# Altium footprint library Keebs.PcbLib: 219 footprints (part 10 of 14)
Each footprint in its own frame and in the unit in brackets; x right, y up, seen from the top. Pads: shape width x height; smd on the part's side, far side on the other; paste and mask are expansions set on the pad; w line width, h text height; cw(c..) or ccw(c..) is an arc to the next point about the centre after c.
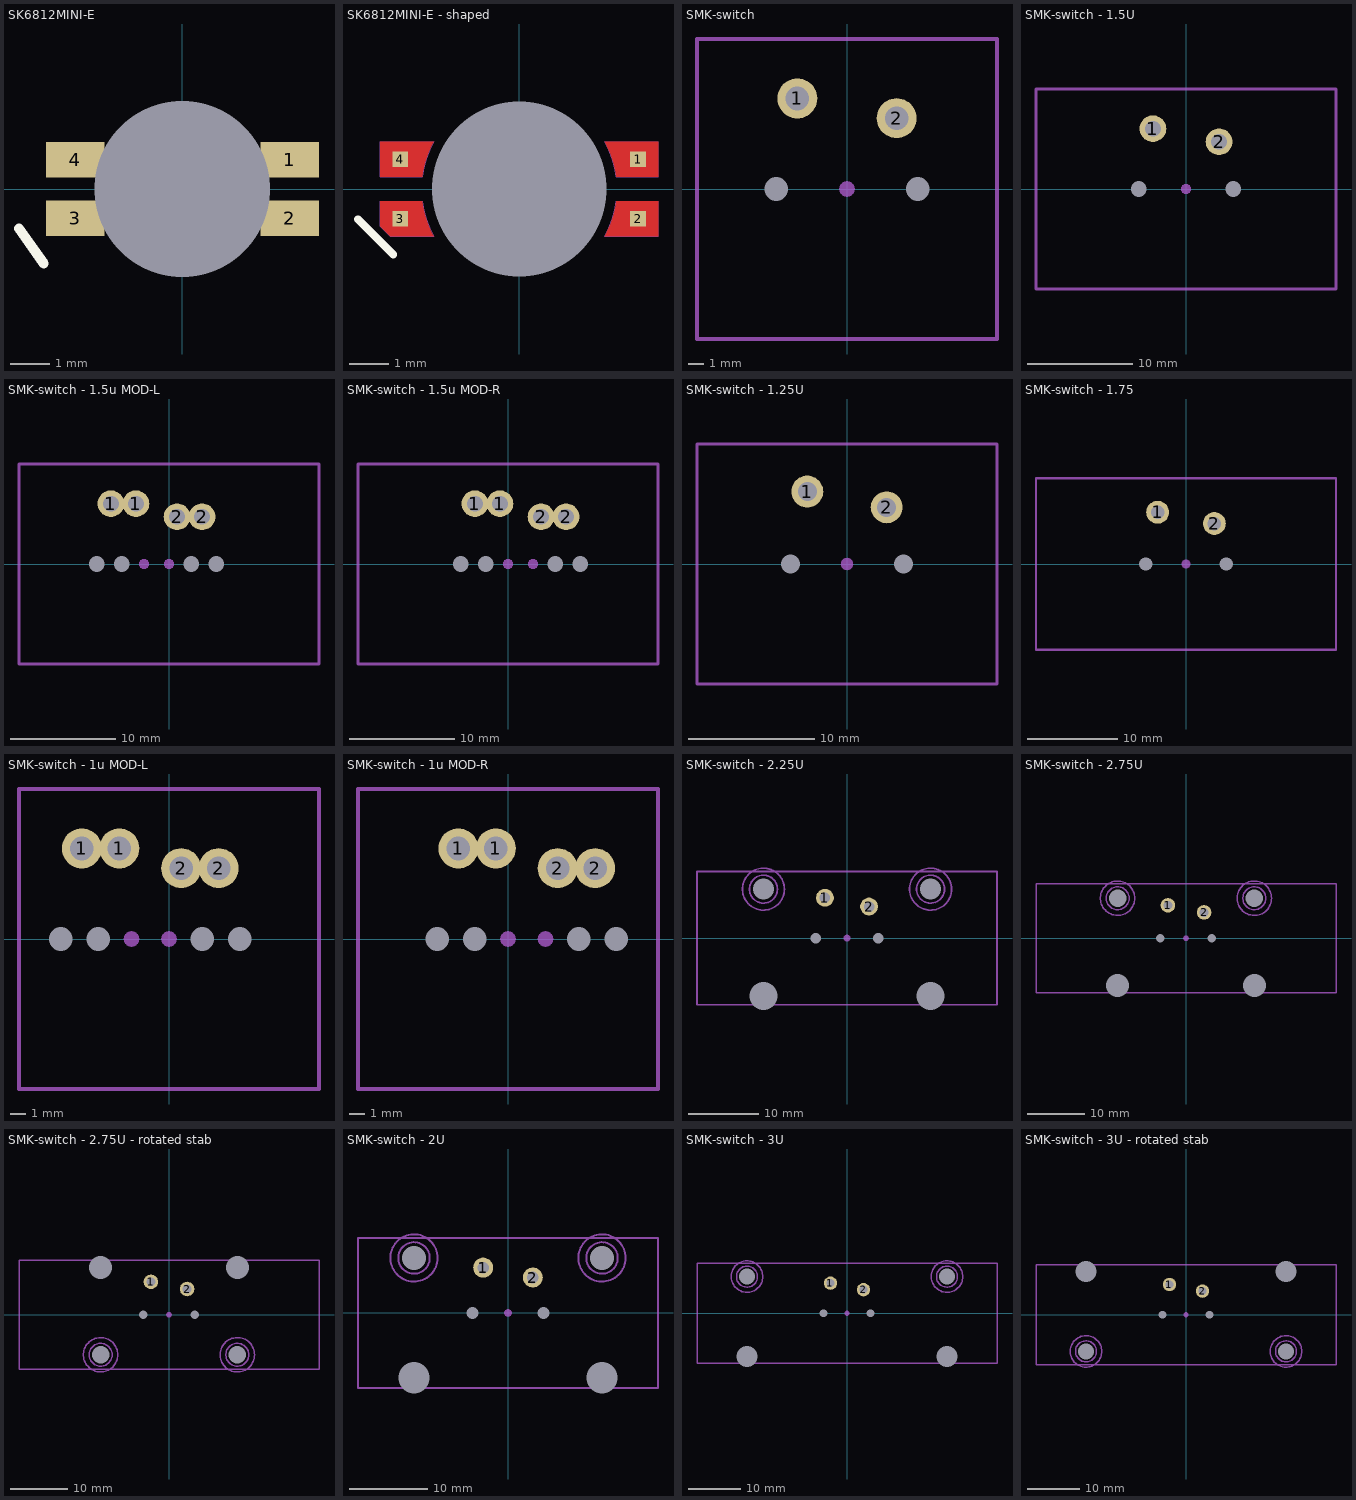
[diagram p9: the footprints below, top view; thin cyan lines are the x and y axes]

## SK6812MINI-E [mm]
pads (5):
  rect 1.5x0.9 smd: 1(2.75,0.75) 2(2.75,-0.75) 3(-2.75,-0.75) 4(-2.75,0.75)
  round 1 hole 4.5 unplated: ""(0,0)
Top Overlay:
  lines w0.254: -4.191,-1.016 -3.556,-1.905
Mechanical 13:
  lines w0.2: -1.6,-1.4 1.6,-1.4 1.6,1.4 -1.6,1.4 -1.6,-1.4
  text ".Designator" at -1.27,-0.127 h0.35
3D body "LED_SK6812MINI-E.step": height 0.94, standoff -0.84, extent -2.94,-1.403 2.94,1.397

## SK6812MINI-E - shaped [mm]
pads (5):
  rect 0.4x0.4 smd: 1(3,0.75) 2(3,-0.75) 3(-3,-0.75) 4(-3,0.75)
  round 1 hole 4.4 unplated: ""(0,0)
Top Layer:
  region: -3.5,0.304 -3.5,1.195 -2.157,1.195 -2.211,1.091 -2.305,0.875 -2.378,0.651 -2.43,0.421 -2.447,0.304 -2.449,0.304
  region: 2.447,0.304 2.43,0.421 2.378,0.651 2.305,0.875 2.211,1.091 2.157,1.195 3.5,1.195 3.5,0.304
  region: 2.157,-1.195 3.5,-1.195 3.5,-0.304 2.449,-0.304 2.447,-0.304 2.43,-0.421 2.378,-0.651 2.305,-0.875 2.211,-1.091
  region: -3.25,-1.195 -3.5,-0.945 -3.5,-0.304 -2.449,-0.304 -2.447,-0.304 -2.43,-0.421 -2.378,-0.651 -2.305,-0.875 -2.211,-1.091 -2.157,-1.195
Top Overlay:
  lines w0.2: -4.064,-0.762 -3.175,-1.651
Mechanical 7:
  lines w0.01: -2.449,-0.304 -3.455,-0.304 -3.5,-0.304 -3.5,-0.945 -3.25,-1.195 -2.211,-1.195 -2.157,-1.195 cw(c0,0) -2.447,-0.304 ; -2.449,0.304 -3.455,0.304 -3.5,0.304 -3.5,0.349 -3.5,1.154 -3.5,1.195 -3.476,1.195 -2.211,1.195 -2.157,1.195 ccw(c0,0) -2.447,0.304 ; 2.447,-0.304 cw(c0,0) 2.157,-1.195 2.211,-1.195 3.476,-1.195 3.5,-1.195 3.5,-1.154 3.5,-0.349 3.5,-0.304 3.455,-0.304 2.449,-0.304 ; 2.447,0.304 ccw(c0,0) 2.157,1.195 2.211,1.195 3.476,1.195 3.5,1.195 3.5,1.154 3.5,0.349 3.5,0.304 3.455,0.304 2.449,0.304
Mechanical 13:
  lines w0.1: -1.6,-1.4 -1.6,1.4 1.6,1.4 1.6,-1.4 -1.6,-1.4
  text ".Designator" at -1.27,-0.127 h0.35
3D body "LED_SK6812MINI-E.step": height 0.94, standoff -0.84, extent -2.94,-1.403 2.94,1.397

## SMK-switch [mm]
pads (5):
  round 2.54 hole 1.5 mask-0.5: 1(-3.15,5.75) 2(3.15,4.5)
  round 1 hole 1.5 unplated: ""(-4.5,0) ""(4.5,0)
  round 1 on Mech13: ""(0,0)
Mechanical 13:
  lines w0.254: -9.525,-9.525 -9.525,9.525 9.525,9.525 9.525,-9.525 -9.525,-9.525
  text ".Designator" at -3.575,-3.7 h0.7

## SMK-switch - 1.5U [mm]
pads (5):
  round 2.54 hole 1.5 mask-0.5: 1(-3.15,5.75) 2(3.15,4.5)
  round 1 hole 1.5 unplated: ""(-4.5,0) ""(4.5,0)
  round 1 on Mech13: ""(0,0)
Mechanical 13:
  lines w0.254: -14.287,-9.525 14.287,-9.525 14.287,9.525 -14.287,9.525 -14.287,-9.525
  text ".Designator" at -3.825,-3.375 h0.7

## SMK-switch - 1.5u MOD-L [mm]
pads (10):
  round 2.54 hole 1.5 mask-0.5: 1(-5.531,5.75) 1(-3.15,5.75) 2(0.769,4.5) 2(3.15,4.5)
  round 1 hole 1.5 unplated: ""(-6.881,0) ""(-4.5,0) ""(2.119,0) ""(4.5,0)
  round 1 on Mech13: ""(-2.381,0) ""(0,0)
Mechanical 13:
  lines w0.254: -14.287,-9.525 -14.287,9.525 14.287,9.525 14.287,-9.525 -14.287,-9.525
  text ".Designator" at 2.9,2.625 h0.7

## SMK-switch - 1.5u MOD-R [mm]
pads (10):
  round 2.54 hole 1.5 mask-0.5: 1(-3.15,5.75) 1(-0.769,5.75) 2(3.15,4.5) 2(5.531,4.5)
  round 1 hole 1.5 unplated: ""(-4.5,0) ""(-2.119,0) ""(4.5,0) ""(6.881,0)
  round 1 on Mech13: ""(0,0) ""(2.381,0)
Mechanical 13:
  lines w0.254: -14.287,-9.525 14.287,-9.525 14.287,9.525 -14.287,9.525 -14.287,-9.525
  text ".Designator" at -10.675,-5.325 h0.7

## SMK-switch - 1.25U [mm]
pads (5):
  round 2.54 hole 1.5 mask-0.5: 1(-3.15,5.75) 2(3.15,4.5)
  round 1 hole 1.5 unplated: ""(-4.5,0) ""(4.5,0)
  round 1 on Mech13: ""(0,0)
Mechanical 13:
  lines w0.254: -11.906,-9.525 -11.906,9.525 11.906,9.525 11.906,-9.525 -11.906,-9.525
  text ".Designator" at -3.425,-3.425 h0.7

## SMK-switch - 1.75 [mm]
pads (5):
  round 2.54 hole 1.5 mask-0.5: 1(-3.15,5.75) 2(3.15,4.5)
  round 1 hole 1.5 unplated: ""(-4.5,0) ""(4.5,0)
  round 1 on Mech13: ""(0,0)
Mechanical 13:
  lines w0.254: -16.669,-9.525 -16.669,9.525 16.669,9.525 16.669,-9.525 -16.669,-9.525
  text ".Designator" at -3.825,-3.375 h0.7

## SMK-switch - 1u MOD-L [mm]
pads (10):
  round 2.54 hole 1.5 mask-0.5: 1(-5.531,5.75) 1(-3.15,5.75) 2(0.769,4.5) 2(3.15,4.5)
  round 1 hole 1.5 unplated: ""(-6.881,0) ""(-4.5,0) ""(2.119,0) ""(4.5,0)
  round 1 on Mech13: ""(-2.381,0) ""(0,0)
Mechanical 13:
  lines w0.254: -9.525,-9.525 -9.525,9.525 9.525,9.525 9.525,-9.525 -9.525,-9.525
  text ".Designator" at -1.925,-7.85 h0.7

## SMK-switch - 1u MOD-R [mm]
pads (10):
  round 2.54 hole 1.5 mask-0.5: 1(-3.15,5.75) 1(-0.769,5.75) 2(3.15,4.5) 2(5.531,4.5)
  round 1 hole 1.5 unplated: ""(-4.5,0) ""(-2.119,0) ""(4.5,0) ""(6.881,0)
  round 1 on Mech13: ""(0,0) ""(2.381,0)
Mechanical 13:
  lines w0.254: -9.525,-9.525 9.525,-9.525 9.525,9.525 -9.525,9.525 -9.525,-9.525
  text ".Designator" at -4.225,-8.325 h0.7

## SMK-switch - 2.25U [mm]
pads (9):
  round 2.54 hole 1.5 mask-0.5: 1(-3.15,5.75) 2(3.15,4.5)
  round 1.524 hole 4 unplated: ""(-11.938,-8.255) ""(11.938,-8.255)
  round 1.524 hole 3 unplated: ""(-11.938,6.985) ""(11.938,6.985)
  round 1 hole 1.5 unplated: ""(-4.5,0) ""(4.5,0)
  round 1 on Mech13: ""(0,0)
Mechanical 13:
  lines w0.254: -21.431,-9.525 21.431,-9.525 21.431,9.525 -21.431,9.525 -21.431,-9.525
  text ".Designator" at -3.825,-3.375 h0.7
Mechanical 15:
  circle w0.254: c-11.938,6.985 r3
  circle w0.254: c-11.938,6.985 r2
  circle w0.254: c11.938,6.985 r3
  circle w0.254: c11.938,6.985 r2

## SMK-switch - 2.75U [mm]
pads (9):
  round 2.54 hole 1.5 mask-0.5: 1(-3.15,5.75) 2(3.15,4.5)
  round 1.524 hole 4 unplated: ""(-11.938,-8.255) ""(11.938,-8.255)
  round 1.524 hole 3.048 unplated: ""(-11.938,6.985) ""(11.938,6.985)
  round 1 hole 1.5 unplated: ""(-4.5,0) ""(4.5,0)
  round 1 on Mech13: ""(0,0)
Mechanical 13:
  lines w0.254: -26.194,-9.525 -26.194,9.525 26.194,9.525 26.194,-9.525 -26.194,-9.525
  text ".Designator" at -3.825,-3.375 h0.7
Mechanical 15:
  circle w0.254: c11.938,6.985 r2
  circle w0.254: c11.938,6.985 r3
  circle w0.254: c-11.938,6.985 r2
  circle w0.254: c-11.938,6.985 r3

## SMK-switch - 2.75U - rotated stab [mm]
pads (9):
  round 2.54 hole 1.5 mask-0.5: 1(-3.15,5.75) 2(3.15,4.5)
  round 1.524 hole 3.048 unplated: ""(-11.938,-6.985) ""(11.938,-6.985)
  round 1.524 hole 4 unplated: ""(-11.938,8.255) ""(11.938,8.255)
  round 1 hole 1.5 unplated: ""(-4.5,0) ""(4.5,0)
  round 1 on Mech13: ""(0,0)
Mechanical 13:
  lines w0.254: -26.194,-9.525 -26.194,9.525 26.194,9.525 26.194,-9.525 -26.194,-9.525
  text ".Designator" at -3.825,-3.375 h0.7
Mechanical 15:
  circle w0.254: c-11.938,-6.985 r2
  circle w0.254: c-11.938,-6.985 r3
  circle w0.254: c11.938,-6.985 r2
  circle w0.254: c11.938,-6.985 r3

## SMK-switch - 2U [mm]
pads (9):
  round 2.54 hole 1.5 mask-0.5: 1(-3.15,5.75) 2(3.15,4.5)
  round 1.524 hole 4 unplated: ""(-11.938,-8.255) ""(11.938,-8.255)
  round 1.524 hole 3.048 unplated: ""(-11.938,6.985) ""(11.938,6.985)
  round 1 hole 1.5 unplated: ""(-4.5,0) ""(4.5,0)
  round 1 on Mech13: ""(0,0)
Mechanical 13:
  lines w0.254: -19.05,-9.525 19.05,-9.525 19.05,9.525 -19.05,9.525 -19.05,-9.525
  text ".Designator" at -3.825,-3.375 h0.7
Mechanical 15:
  circle w0.254: c11.938,6.985 r2
  circle w0.254: c11.938,6.985 r3
  circle w0.254: c-11.938,6.985 r2
  circle w0.254: c-11.938,6.985 r3

## SMK-switch - 3U [mm]
pads (9):
  round 2.54 hole 1.5 mask-0.5: 1(-3.15,5.75) 2(3.15,4.5)
  round 1.524 hole 4 unplated: ""(-19.05,-8.255) ""(19.05,-8.255)
  round 1.524 hole 3.048 unplated: ""(-19.05,6.985) ""(19.05,6.985)
  round 1 hole 1.5 unplated: ""(-4.5,0) ""(4.5,0)
  round 1 on Mech13: ""(0,0)
Mechanical 13:
  lines w0.254: -28.575,-9.525 -28.575,9.525 28.575,9.525 28.575,-9.525 -28.575,-9.525
  text ".Designator" at -3.825,-3.375 h0.7
Mechanical 15:
  circle w0.254: c19.05,6.985 r2
  circle w0.254: c19.05,6.985 r3
  circle w0.254: c-19.05,6.985 r2
  circle w0.254: c-19.05,6.985 r3

## SMK-switch - 3U - rotated stab [mm]
pads (9):
  round 2.54 hole 1.5 mask-0.5: 1(-3.15,5.75) 2(3.15,4.5)
  round 1.524 hole 3.048 unplated: ""(-19.05,-6.985) ""(19.05,-6.985)
  round 1.524 hole 4 unplated: ""(-19.05,8.255) ""(19.05,8.255)
  round 1 hole 1.5 unplated: ""(-4.5,0) ""(4.5,0)
  round 1 on Mech13: ""(0,0)
Mechanical 13:
  lines w0.254: -28.575,-9.525 28.575,-9.525 28.575,9.525 -28.575,9.525 -28.575,-9.525
  text ".Designator" at -3.825,-3.375 h0.7
Mechanical 15:
  circle w0.254: c-19.05,-6.985 r3
  circle w0.254: c-19.05,-6.985 r2
  circle w0.254: c19.05,-6.985 r3
  circle w0.254: c19.05,-6.985 r2